# EAGLE library part LMH6601 (library LMH6601)
LMH6601 250-MHz, 2.4-V CMOS Operational Amplifier With Shutdown
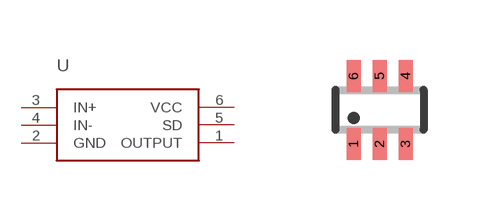
[diagram p0: symbol with the pads of SC70-6; footprint SC70-6]

Designator prefix -

## LMH6601SC70-6  [SC70-6]
1  OUTPUT
2  GND
3  IN+
4  IN-
5  SD
6  VCC

## Footprint SC70-6 (pad centres in mm)
SC70-6 LMH6601 <http://www.ti.com/lit/ds/symlink/lmh6601.pdf>
smd 0.35 x 0.8: 1 -0.65,-0.85; 2 0,-0.85; 3 0.65,-0.85; 4 0.65,0.85; 5 0,0.85; 6 -0.65,0.85